# EAGLE library part TPS65261RHBR (library tps65261)
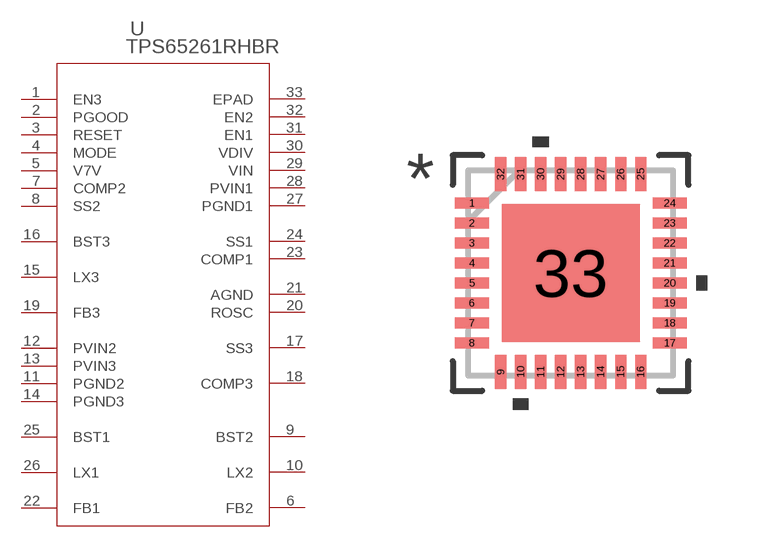
[diagram p0: symbol with the pads of RHB32_3P45X3P45; footprint RHB32_3P45X3P45]

Designator prefix U

## TPS65261RHBR (MANUFACTURER_PART_NUMBER: TPS65261RHBR; VENDOR: Texas Instruments)  [RHB32_3P45X3P45]
1  EN3  in
2  PGOOD  out
3  RESET  out
4  MODE  pas
5  V7V  pwr
6  FB2  out
7  COMP2  out
8  SS2  in
9  BST2  pas
10  LX2  pas
11  PGND2  pwr
12  PVIN2  in
13  PVIN3  in
14  PGND3  pwr
15  LX3  pas
16  BST3  pas
17  SS3  in
18  COMP3  out
19  FB3  out
20  ROSC  pas
21  AGND  pwr
22  FB1  out
23  COMP1  out
24  SS1  in
25  BST1  pas
26  LX1  pas
27  PGND1  pwr
28  PVIN1  in
29  VIN  in
30  VDIV  in
31  EN1  in
32  EN2  in
33  EPAD  pas

## Footprint RHB32_3P45X3P45 (pad centres in mm)
smd 0.85 x 0.28: 1 -2.475,1.75; 2 -2.475,1.25; 3 -2.475,0.75; 4 -2.475,0.25; 5 -2.475,-0.25; 6 -2.475,-0.75; 7 -2.475,-1.25; 8 -2.475,-1.75; 17 2.475,-1.75; 18 2.475,-1.25; 19 2.475,-0.75; 20 2.475,-0.25; 21 2.475,0.25; 22 2.475,0.75; 23 2.475,1.25; 24 2.475,1.75
smd 0.28 x 0.85: 9 -1.75,-2.475; 10 -1.25,-2.475; 11 -0.75,-2.475; 12 -0.25,-2.475; 13 0.25,-2.475; 14 0.75,-2.475; 15 1.25,-2.475; 16 1.75,-2.475; 25 1.75,2.475; 26 1.25,2.475; 27 0.75,2.475; 28 0.25,2.475; 29 -0.25,2.475; 30 -0.75,2.475; 31 -1.25,2.475; 32 -1.75,2.475
smd 3.45 x 3.45: 33 0,0